# Altium schematic symbol library TDA5340.SchLib: 1 symbol
Pins are listed as number, name and electrical type; pins without a type are passive.

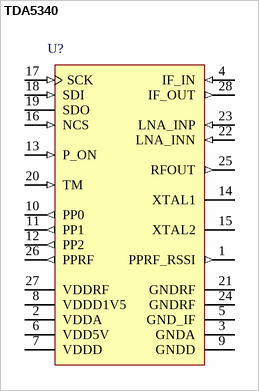
[diagram p0: symbol TDA5340]

## TDA5340
designator U?
High Sensitivity Multi-Channel Transceiver, -40 to 110 degC, PG-TSSOP-28, Green; Manufacturer: Infineon; PartNumber: TDA5340; Frequency Band: 315 MHz, 434 MHz, 470 MHz, 868 MHz, 915 MHz, 959 MHz; Green: yes; Group: SmartLEWIS TRX to Multi-channel TRX with Digital Baseband Processing; Modulation Type: ASK / FSK / GSFK; Transmit Power (at 3V): 14 dBm; DatasheetVersion: Rev. 1.2; PackageReference: PG-TSSOP-28; PackageDescription: 28-Pin Plastic (Green) Thin Shrink Small Outline Package, 9.7 x 4.4 mm Body, 0.65 mm Pitch; Supplier 1: Mouser; Supplier Part Number 1: N/A; Channel Requirements per Band: Multi-Channel; Halogen-free: yes; Mounting Technology: Surface Mount; ComponentLink1Description: Manufacturer URL; ComponentLink1URL: http://www.infineon.com/; ComponentLink2Description: Datasheet; ComponentLink2URL: http://www.infineon.com/dgdl/TDA5340_DS_V1.2.pdf?folderId=db3a3043191a246301192dd387ea2ae3&fileId=db3a30433408410401340ea9a6a4300a; ComponentLink3Description: Package Specification; ComponentLink3URL: http://www.infineon.com/cms/packages/SMD_-_Surface_Mounted_Devices/P-PG-TSSOP/P-PG-TSSOP-28-1x_-4x_-8.html?__locale=en
footprint INF-PG-TSSOP-28_N (SOP, 28-Leads, Body 9.7x4.4 mm, Pitch 0.65 mm, IPC Medium Density)
footprint INF-PG-TSSOP-28_L (SOP, 28-Leads, Body 9.7x4.4 mm, Pitch 0.65 mm, IPC High Density)
footprint INF-PG-TSSOP-28_M (SOP, 28-Leads, Body 9.7x4.4 mm, Pitch 0.65 mm, IPC Low Density)
pins: 1 PPRF_RSSI (out) "Analog output Digital output with weak driver capability, always in 3V domain CLK_OUT, RX_RUN, NINT, ANT_EXTSW1, ANT_EXTSW1, DATA, DATA_MATCHFIL, CH_DATA, CH_STR, RXD, RXSTR, TXSTR and TRISTATE are programmable via SFR (See Datasheet)", 2 VDDA (power) "Analog input Analog supply", 3 GNDA (power) "Analog Ground", 4 IF_IN (in) "Analog input IF mixer input", 5 GND_IF (power) "Analog Ground", 6 VDD5V (power) "Analog input 5 Volt supply input", 7 VDDD (power) "Analog input digital supply input", 8 VDDD1V5 (power) "Analog output 1.5V regulator", 9 GNDD (power) "Digital ground", 10 PP0 (out) "Digital output CLK_OUT, RX_RUN, NINT, ANT_EXTSW1, ANT_EXTSW1, DATA, DATA_MATCHFIL, CH_DATA, CH_STR, RXD, RXSTR, TXSTR and TRISTATE are programmable via SFR default: CLK_OUT", 11 PP1 (out) "Digital output CLK_OUT, RX_RUN, NINT, ANT_EXTSW1, ANT_EXTSW1, DATA, DATA_MATCHFIL, CH_DATA, CH_STR, RXD, RXSTR, TXSTR and TRISTATE are programmable via SFR default: DATA", 12 PP2 (out) "Digital output CLK_OUT, RX_RUN, NINT, ANT_EXTSW1, ANT_EXTSW1, DATA, DATA_MATCHFIL, CH_DATA, CH_STR, RXD, RXSTR, TXSTR and TRISTATE are programmable via SFR default: NINT", 13 P_ON (in) "Digital input power-on reset", 14 XTAL1 "Analog input crystal oscillator input", 15 XTAL2 "Analog output crystal oscillator output", 16 NCS (in) "Digital input SPI Not Chip select", 17 SCK (in) "Digital input SPI clock", 18 SDI (in) "Digital input SPI data in", 19 SDO (hiz) "Digital output SPI data out", 20 TM (in) "Digital input connect to digital ground", 21 GNDRF (power) "Analog ground", 22 LNA_INN (in) "Analog input - RF input", 23 LNA_INP (in) "Analog input +RF input", 24 GNDRF (power) "Analog ground", 25 RFOUT (out) "Analog output power amplifier output", 26 PPRF (out) "Digital output always in 3V domain CLK_OUT, RX_RUN, NINT, ANT_EXTSW1, ANT_EXTSW1, DATA, DATA_MATCHFIL, CH_DATA, CH_STR, RXD, RXSTR, TXSTR and TRISTATE are programmable via SFR default: TRISTATE", 27 VDDRF (power) "Analog input RF supply", 28 IF_OUT (out) "Analog output Mixer output"